# Altium footprint library Package_TO_SOT_SMD.PcbLib: 125 footprints (part 5 of 8)
Each footprint in its own frame and in the unit in brackets; x right, y up, seen from the top. Pads: shape width x height; smd on the part's side, far side on the other; paste and mask are expansions set on the pad; w line width, h text height; cw(c..) or ccw(c..) is an arc to the next point about the centre after c.
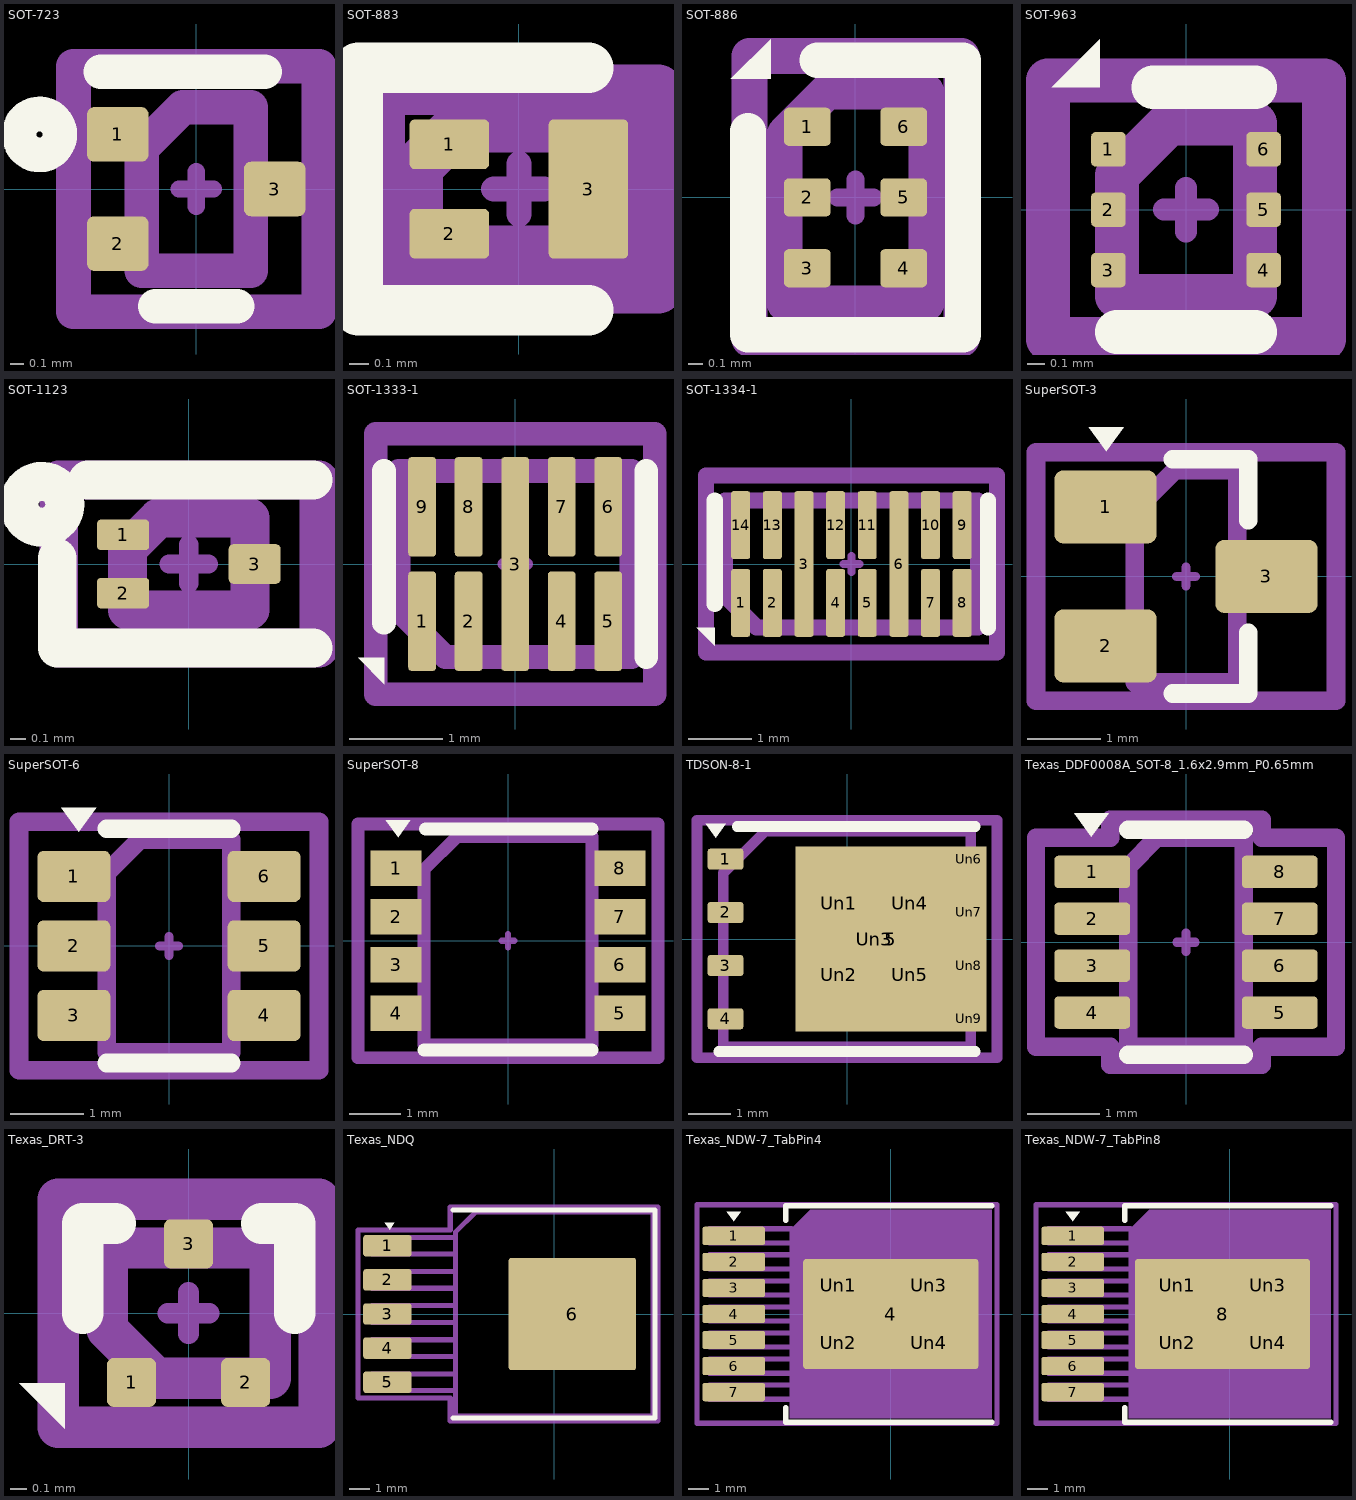
[diagram p4: the footprints below, top view; thin cyan lines are the x and y axes]

## SOT-723 [mm] "SOT-723"
pads (3):
  rrect25% 0.45x0.4 smd: 1(-0.575,0.4) 2(-0.575,-0.4) 3(0.575,0)
F.SilkS:
  circle w0.254: c-1.15,0.4 r0.15
  lines w0.254: -0.7,0.86 0.5,0.86 ; -0.3,-0.86 0.3,-0.86
Top Component Center:
  lines w0.127: -0.127,0 0.127,0 ; 0,-0.127 0,0.127
Top Assembly:
  lines w0.254: -0.4,-0.6 0.4,-0.6 0.4,0.6 -0.1,0.6 -0.4,0.3 -0.4,-0.6
Top Courtyard:
  lines w0.254: -0.9,-0.9 0.9,-0.9 0.9,0.9 -0.9,0.9 -0.9,-0.9
Top Designator:
  text ".Designator" at -2.253,-0.226 h1

## SOT-883 [mm] "SOT-883"
pads (3):
  rrect20% 0.4x0.25 smd: 1(-0.35,0.225) 2(-0.35,-0.225)
  rrect12% 0.4x0.7 smd: 3(0.35,0)
F.SilkS:
  lines w0.254: 0.35,-0.61 -0.81,-0.61 -0.81,0.61 0.35,0.61
Top Component Center:
  lines w0.127: -0.127,0 0.127,0 ; 0,-0.127 0,0.127
Top Assembly:
  lines w0.254: -0.51,-0.31 -0.51,0.11 -0.31,0.31 0.51,0.31 0.51,-0.31 -0.51,-0.31
Top Courtyard:
  lines w0.254: -0.7,-0.5 -0.7,0.5 0.7,0.5 0.7,-0.5 -0.7,-0.5
Top Designator:
  text ".Designator" at -1.69,-0.17 h0.75

## SOT-886 [mm] "SOT-886"
pads (6):
  rrect25% 0.33x0.27 smd: 1(-0.34,0.5) 2(-0.34,0) 3(-0.34,-0.5) 4(0.34,-0.5) 5(0.34,0) 6(0.34,0.5)
F.SilkS:
  region: -0.6,0.84 -0.88,0.84 -0.6,1.12
  lines w0.254: -0.76,0.47 -0.76,-0.97 0.76,-0.97 0.76,0.97 -0.27,0.97
Top Component Center:
  lines w0.127: -0.127,0 0.127,0 ; 0,-0.127 0,0.127
Top Assembly:
  lines w0.254: -0.5,-0.75 -0.5,0.45 -0.2,0.75 0.5,0.75 0.5,-0.75 -0.5,-0.75
Top Courtyard:
  lines w0.254: -0.75,-1 -0.75,1 0.75,1 0.75,-1 -0.75,-1
Top Designator:
  text ".Designator" at -1.69,-0.232 h0.75
3D body "SOT-886.step": height 0.52, standoff 0, extent -0.5,-0.725 0.5,0.725

## SOT-963 [mm] "SOT-963"
pads (6):
  rrect25% 0.2x0.2 smd: 1(-0.45,0.35) 2(-0.45,0) 3(-0.45,-0.35) 4(0.45,-0.35) 5(0.45,0) 6(0.45,0.35)
F.SilkS:
  region: -0.5,0.71 -0.78,0.71 -0.5,0.99
  lines w0.254: -0.4,-0.71 0.4,-0.71 ; -0.19,0.71 0.4,0.71
Top Component Center:
  lines w0.127: -0.127,0 0.127,0 ; 0,-0.127 0,0.127
Top Assembly:
  lines w0.254: -0.4,-0.5 0.4,-0.5 0.4,0.5 -0.1,0.5 -0.4,0.2 -0.4,-0.5
Top Courtyard:
  lines w0.254: -0.8,-0.75 0.8,-0.75 0.8,0.75 -0.8,0.75 -0.8,-0.75
Top Designator:
  text ".Designator" at -1.578,-0.213 h0.7
3D body "SOT-963.step": height 0.45, standoff 0, extent -0.5,-0.5 0.5,0.5

## SOT-1123 [mm] "SOT-1123"
pads (3):
  rrect25% 0.34x0.2 smd: 1(-0.43,0.19) 2(-0.43,-0.19)
  rrect25% 0.34x0.26 smd: 3(0.43,0)
F.SilkS:
  circle w0.254: c-0.96,0.39 r0.15
  lines w0.254: -0.86,0.04 -0.86,-0.55 0.81,-0.55 ; -0.66,0.55 0.81,0.55
Top Component Center:
  lines w0.127: -0.127,0 0.127,0 ; 0,-0.127 0,0.127
Top Assembly:
  lines w0.254: -0.4,-0.3 -0.4,0.1 -0.2,0.3 0.4,0.3 0.4,-0.3 -0.4,-0.3
Top Courtyard:
  lines w0.254: -0.85,-0.55 -0.85,0.55 0.85,0.55 0.85,-0.55 -0.85,-0.55
Top Designator:
  text ".Designator" at -1.578,-0.159 h0.7

## SOT-1333-1 [mm] "SOT-1333-1"
pads (9):
  rrect25% 0.3x1.07 smd: 1(-1,-0.615) 2(-0.5,-0.615) 4(0.5,-0.615) 5(1,-0.615) 6(1,0.615) 7(0.5,0.615) 8(-0.5,0.615) 9(-1,0.615)
  rrect25% 0.3x2.3 smd: 3(0,0)
F.SilkS:
  region: -1.41,-1.29 -1.69,-1.01 -1.41,-1.01
  lines w0.254: -1.41,-0.63 -1.41,1 ; 1.41,-1 1.41,1
Top Component Center:
  lines w0.127: -0.127,0 0.127,0 ; 0,-0.127 0,0.127
Top Assembly:
  lines w0.254: -1.25,-0.5 -1.25,1 1.25,1 1.25,-1 -0.75,-1 -1.25,-0.5
Top Courtyard:
  lines w0.254: -1.5,-1.4 -1.5,1.4 1.5,1.4 1.5,-1.4 -1.5,-1.4
Top Designator:
  text ".Designator" at -2.253,-0.226 h1
3D body "SOT-1333-1.step": height 0.52, standoff 0, extent -1.24,-1 1.24,1

## SOT-1334-1 [mm] "SOT-1334-1"
pads (14):
  rrect25% 0.3x1.07 smd: 1(-1.75,-0.615) 2(-1.25,-0.615) 4(-0.25,-0.615) 5(0.25,-0.615) 7(1.25,-0.615) 8(1.75,-0.615) 9(1.75,0.615) 10(1.25,0.615) 11(0.25,0.615) 12(-0.25,0.615) 13(-1.25,0.615) 14(-1.75,0.615)
  rrect25% 0.3x2.3 smd: 3(-0.75,0) 6(0.75,0)
F.SilkS:
  region: -2.16,-1.29 -2.44,-1.01 -2.16,-1.01
  lines w0.254: -2.16,-0.63 -2.16,1 ; 2.16,-1 2.16,1
Top Component Center:
  lines w0.127: -0.127,0 0.127,0 ; 0,-0.127 0,0.127
Top Assembly:
  lines w0.254: -2,-0.5 -2,1 2,1 2,-1 -1.5,-1 -2,-0.5
Top Courtyard:
  lines w0.254: -2.3,-1.4 -2.3,1.4 2.3,1.4 2.3,-1.4 -2.3,-1.4
Top Designator:
  text ".Designator" at -3.432,-0.345 h1.52
3D body "SOT-1334-1.step": height 0.52, standoff 0, extent -1.99,-1 1.99,1

## SuperSOT-3 [mm] "SuperSOT-3"
pads (3):
  rrect25% 1.4x1 smd: 1(-1.1,0.95) 2(-1.1,-0.95) 3(1.1,0)
F.SilkS:
  region: -1.09,1.71 -1.33,2.04 -0.85,2.04
  lines w0.254: -0.18,-1.6 0.85,-1.6 0.85,-0.77 ; -0.18,1.6 0.85,1.6 0.85,0.77
Top Component Center:
  lines w0.127: -0.127,0 0.127,0 ; 0,-0.127 0,0.127
Top Assembly:
  lines w0.254: -0.7,-1.45 -0.7,0.9 -0.15,1.45 0.7,1.45 0.7,-1.45 -0.7,-1.45
Top Courtyard:
  lines w0.254: -2.05,-1.7 -2.05,1.7 2.05,1.7 2.05,-1.7 -2.05,-1.7
Top Designator:
  text ".Designator" at -3.432,-0.345 h1.52
3D body "SuperSOT-3.step": height 1.04, standoff 0, extent -1.255,-1.46 1.255,1.46

## SuperSOT-6 [mm] "SuperSOT-6"
pads (6):
  rrect25% 1x0.7 smd: 1(-1.3,0.95) 2(-1.3,0) 3(-1.3,-0.95) 4(1.3,-0.95) 5(1.3,0) 6(1.3,0.95)
F.SilkS:
  region: -1.232,1.56 -1.472,1.89 -0.992,1.89
  lines w0.254: -0.85,-1.6 0.85,-1.6 ; -0.85,1.6 0.85,1.6
Top Component Center:
  lines w0.127: -0.127,0 0.127,0 ; 0,-0.127 0,0.127
Top Assembly:
  lines w0.254: -0.85,-1.45 0.85,-1.45 0.85,1.45 -0.4,1.45 -0.85,1 -0.85,-1.45
Top Courtyard:
  lines w0.254: -2.05,-1.7 2.05,-1.7 2.05,1.7 -2.05,1.7 -2.05,-1.7
Top Designator:
  text ".Designator" at -3.432,-0.345 h1.52
3D body "SuperSOT-6.step": height 1.12, standoff 0, extent -1.425,-1.46 1.425,1.46

## SuperSOT-8 [mm] "SuperSOT-8"
pads (8):
  rect 1x0.7 smd: 1(-2.2,1.427) 2(-2.2,0.475) 3(-2.2,-0.475) 4(-2.2,-1.427) 5(2.2,-1.427) 6(2.2,-0.475) 7(2.2,0.475) 8(2.2,1.427)
F.SilkS:
  region: -2.16,2.04 -2.4,2.37 -1.92,2.37
  lines w0.254: -1.65,-2.15 1.65,-2.15 ; -1.62,2.2 1.65,2.2
Top Component Center:
  lines w0.127: -0.127,0 0.127,0 ; 0,-0.127 0,0.127
Top Assembly:
  lines w0.254: -1.65,-2.05 1.65,-2.05 1.65,2.05 -1,2.05 -1.65,1.4 -1.65,-2.05
Top Courtyard:
  lines w0.254: -2.95,-2.3 2.95,-2.3 2.95,2.3 -2.95,2.3 -2.95,-2.3
Top Designator:
  text ".Designator" at -3.432,-0.345 h1.52
3D body "SuperSOT-8.step": height 1.12, standoff 0, extent -2.35,-2.03 2.35,2.03

## TDSON-8-1 [mm] "TDSON-8-1"
pads (14):
  rrect25% 0.85x0.5 smd: 1(-2.9,1.905) 2(-2.9,0.635) 3(-2.9,-0.635) 4(-2.9,-1.905)
  rect 4.55x4.41 smd: 5(1.05,0)
  rrect25% 1.5x1.5 on Top Paste: Un1(-0.2,0.85) Un2(-0.2,-0.85) Un4(1.5,0.85) Un5(1.5,-0.85)
  rect 3.75x4.41 on Top Solder: Un3(0.65,0)
  rrect25% 0.75x0.5 on Top Paste: Un6(2.905,1.905) Un7(2.905,0.635) Un8(2.905,-0.635) Un9(2.905,-1.905)
F.SilkS:
  region: -3.132,2.42 -3.372,2.75 -2.892,2.75
  lines w0.254: -3.06,-2.685 3.06,-2.685 ; -2.62,2.685 3.06,2.685
F.Mask:
  region: 3.325,1.605 2.525,1.605 2.525,2.205 3.325,2.205
  region: 3.325,0.335 2.525,0.335 2.525,0.935 3.325,0.935
  region: 3.325,-0.935 2.525,-0.935 2.525,-0.335 3.325,-0.335
  region: 3.325,-2.205 2.525,-2.205 2.525,-1.605 3.325,-1.605
Top Component Center:
  lines w0.127: -0.127,0 0.127,0 ; 0,-0.127 0,0.127
Top Assembly:
  lines w0.254: -2.95,-2.575 -2.95,1.575 -1.95,2.575 2.95,2.575 2.95,-2.575 -2.95,-2.575
Top Courtyard:
  lines w0.254: -3.58,-2.83 -3.58,2.83 3.58,2.83 3.58,-2.83 -3.58,-2.83
Top Designator:
  text ".Designator" at -3.432,-0.345 h1.52
3D body "TDSON-8-1.step": height 1.03, standoff 0, extent -3.075,-2.575 3.075,2.575

## Texas_DDF0008A_SOT-8_1.6x2.9mm_P0.65mm [mm] "Texas_DDF0008A_SOT-8_1.6x2.9mm_P0.65mm"
pads (8):
  rrect25% 1.05x0.45 smd: 1(-1.3,0.975) 2(-1.3,0.325) 3(-1.3,-0.325) 4(-1.3,-0.975) 5(1.3,-0.975) 6(1.3,-0.325) 7(1.3,0.325) 8(1.3,0.975)
F.SilkS:
  region: -1.312,1.46 -1.552,1.79 -1.072,1.79
  lines w0.254: -0.8,-1.56 0,-1.56 0.8,-1.56 ; -0.8,1.56 0,1.56 0.8,1.56
Top Component Center:
  lines w0.127: -0.127,0 0.127,0 ; 0,-0.127 0,0.127
Top Assembly:
  lines w0.254: -0.8,-1.45 -0.8,1.05 -0.4,1.45 0.8,1.45 0.8,-1.45 -0.8,-1.45
Top Courtyard:
  lines w0.254: -2.08,-1.45 -2.08,1.45 -1.05,1.45 -1.05,1.7 1.05,1.7 1.05,1.45 2.08,1.45 2.08,-1.45 1.05,-1.45 1.05,-1.7 -1.05,-1.7 -1.05,-1.45 -2.08,-1.45
Top Designator:
  text ".Designator" at -3.432,-0.345 h1.52

## Texas_DRT-3 [mm] "Texas_DRT-3"
pads (3):
  rrect25% 0.3x0.3 smd: 1(-0.35,-0.425) 2(0.35,-0.425) 3(0,0.425)
F.SilkS:
  region: -0.76,-0.71 -1.04,-0.43 -0.76,-0.43
  lines w0.254: -0.65,0 -0.65,0.55 -0.45,0.55 ; 0.45,0.55 0.65,0.55 0.65,0
Top Component Center:
  lines w0.127: -0.127,0 0.127,0 ; 0,-0.127 0,0.127
Top Assembly:
  lines w0.254: -0.5,-0.1 -0.5,0.4 0.5,0.4 0.5,-0.4 -0.2,-0.4 -0.5,-0.1
Top Courtyard:
  lines w0.254: -0.8,-0.7 -0.8,0.7 0.8,0.7 0.8,-0.7 -0.8,-0.7
Top Designator:
  text ".Designator" at -1.69,-0.17 h0.75
3D body "Texas_DRT-3.step": height 0.5, standoff 0, extent -0.5,-0.5 0.5,0.5

## Texas_NDQ [mm] "Texas_NDQ"
pads (6):
  rrect25% 2.41x1.07 smd: 1(-8.315,3.4) 2(-8.315,1.7) 3(-8.315,0) 4(-8.315,-1.7) 5(-8.315,-3.4)
  rrect4% 6.35x5.59 smd: 6(0.91,0)
F.SilkS:
  region: -8.2,4.21 -8.44,4.54 -7.96,4.54
  lines w0.254: -5.035,-5.19 5.035,-5.19 5.035,5.19 -5.035,5.19
Top Component Center:
  lines w0.127: -0.127,0 0.127,0 ; 0,-0.127 0,0.127
Top Assembly:
  lines w0.254: -4.925,-3.815 -9.085,-3.815 -9.085,-2.985 -4.925,-2.985 ; -4.925,-2.115 -9.085,-2.115 -9.085,-1.285 -4.925,-1.285 ; -4.925,-0.415 -9.085,-0.415 -9.085,0.415 -4.925,0.415 ; -4.925,1.285 -9.085,1.285 -9.085,2.115 -4.925,2.115 ; -4.925,2.985 -9.085,2.985 -9.085,3.815 -4.925,3.815 ; -4.925,-5.08 -4.925,4.08 -3.925,5.08 4.925,5.08 4.925,-5.08 -4.925,-5.08
Top Courtyard:
  lines w0.254: -9.78,-4.19 -9.78,4.19 -5.18,4.19 -5.18,5.33 5.18,5.33 5.18,-5.33 -5.18,-5.33 -5.18,-4.19 -9.78,-4.19
Top Designator:
  text ".Designator" at -3.432,-0.345 h1.52

## Texas_NDW-7_TabPin4 [mm] "Texas_NDW-7_TabPin4"
pads (12):
  rrect25% 3.06x0.89 smd: 1(-7.66,3.81) 2(-7.66,2.54) 3(-7.66,1.27) 4(-7.66,0) 5(-7.66,-1.27) 6(-7.66,-2.54) 7(-7.66,-3.81)
  rrect5% 8.54x5.35 smd: 4(0,0)
  rrect10% 4.12x2.525 on Top Paste: Un1(-2.565,1.412) Un2(-2.565,-1.412) Un3(1.855,1.412) Un4(1.855,-1.412)
F.SilkS:
  region: -7.66,4.515 -8,4.985 -7.32,4.985
  lines w0.254: -5.125,-4.555 -5.125,-5.28 4.925,-5.28 ; -5.125,4.555 -5.125,5.28 4.925,5.28
Top Component Center:
  lines w0.127: -0.127,0 0.127,0 ; 0,-0.127 0,0.127
Top Assembly:
  region: 4.925,-5.08 -4.925,-5.08 -4.925,4.08 -3.925,5.08 4.925,5.08
  lines w0.254: -4.925,-4.155 -8.845,-4.155 -8.845,-3.465 -4.925,-3.465 ; -4.925,-2.885 -8.845,-2.885 -8.845,-2.195 -4.925,-2.195 ; -4.925,-1.615 -8.845,-1.615 -8.845,-0.925 -4.925,-0.925 ; -4.925,-0.345 -8.845,-0.345 -8.845,0.345 -4.925,0.345 ; -4.925,0.925 -8.845,0.925 -8.845,1.615 -4.925,1.615 ; -4.925,2.195 -8.845,2.195 -8.845,2.885 -4.925,2.885 ; -4.925,3.465 -8.845,3.465 -8.845,4.155 -4.85,4.155
  text "'.Designator'" at -4.047,-0.84 h1
Top Courtyard:
  lines w0.254: -9.45,-5.33 -9.45,5.33 5.18,5.33 5.18,-5.33 -9.45,-5.33
Top Designator:
  text ".Designator" at -3.432,-0.345 h1.52

## Texas_NDW-7_TabPin8 [mm] "Texas_NDW-7_TabPin8"
pads (12):
  rrect25% 3.06x0.89 smd: 1(-7.66,3.81) 2(-7.66,2.54) 3(-7.66,1.27) 4(-7.66,0) 5(-7.66,-1.27) 6(-7.66,-2.54) 7(-7.66,-3.81)
  rrect5% 8.54x5.35 smd: 8(-0.355,0)
  rrect10% 4.12x2.525 on Top Paste: Un1(-2.565,1.412) Un2(-2.565,-1.412) Un3(1.855,1.412) Un4(1.855,-1.412)
F.SilkS:
  region: -7.66,4.515 -8,4.985 -7.32,4.985
  lines w0.254: -5.125,-4.555 -5.125,-5.28 4.925,-5.28 ; -5.125,4.555 -5.125,5.28 4.925,5.28
Top Component Center:
  lines w0.127: -0.127,0 0.127,0 ; 0,-0.127 0,0.127
Top Assembly:
  region: 4.925,-5.08 -4.925,-5.08 -4.925,4.08 -3.925,5.08 4.925,5.08
  lines w0.254: -4.925,-4.155 -8.845,-4.155 -8.845,-3.465 -4.925,-3.465 ; -4.925,-2.885 -8.845,-2.885 -8.845,-2.195 -4.925,-2.195 ; -4.925,-1.615 -8.845,-1.615 -8.845,-0.925 -4.925,-0.925 ; -4.925,-0.345 -8.845,-0.345 -8.845,0.345 -4.925,0.345 ; -4.925,0.925 -8.845,0.925 -8.845,1.615 -4.925,1.615 ; -4.925,2.195 -8.845,2.195 -8.845,2.885 -4.925,2.885 ; -4.925,3.465 -8.845,3.465 -8.845,4.155 -4.85,4.155
  text "'.Designator'" at -4.047,-0.84 h1
Top Courtyard:
  lines w0.254: -9.45,-5.33 -9.45,5.33 5.18,5.33 5.18,-5.33 -9.45,-5.33
Top Designator:
  text ".Designator" at -3.432,-0.345 h1.52